# Altium footprint library PCB1.PcbLib: 58 footprints (part 4 of 4)
Each footprint in its own frame and in the unit in brackets; x right, y up, seen from the top. Pads: shape width x height; smd on the part's side, far side on the other; paste and mask are expansions set on the pad; w line width, h text height; cw(c..) or ccw(c..) is an arc to the next point about the centre after c.
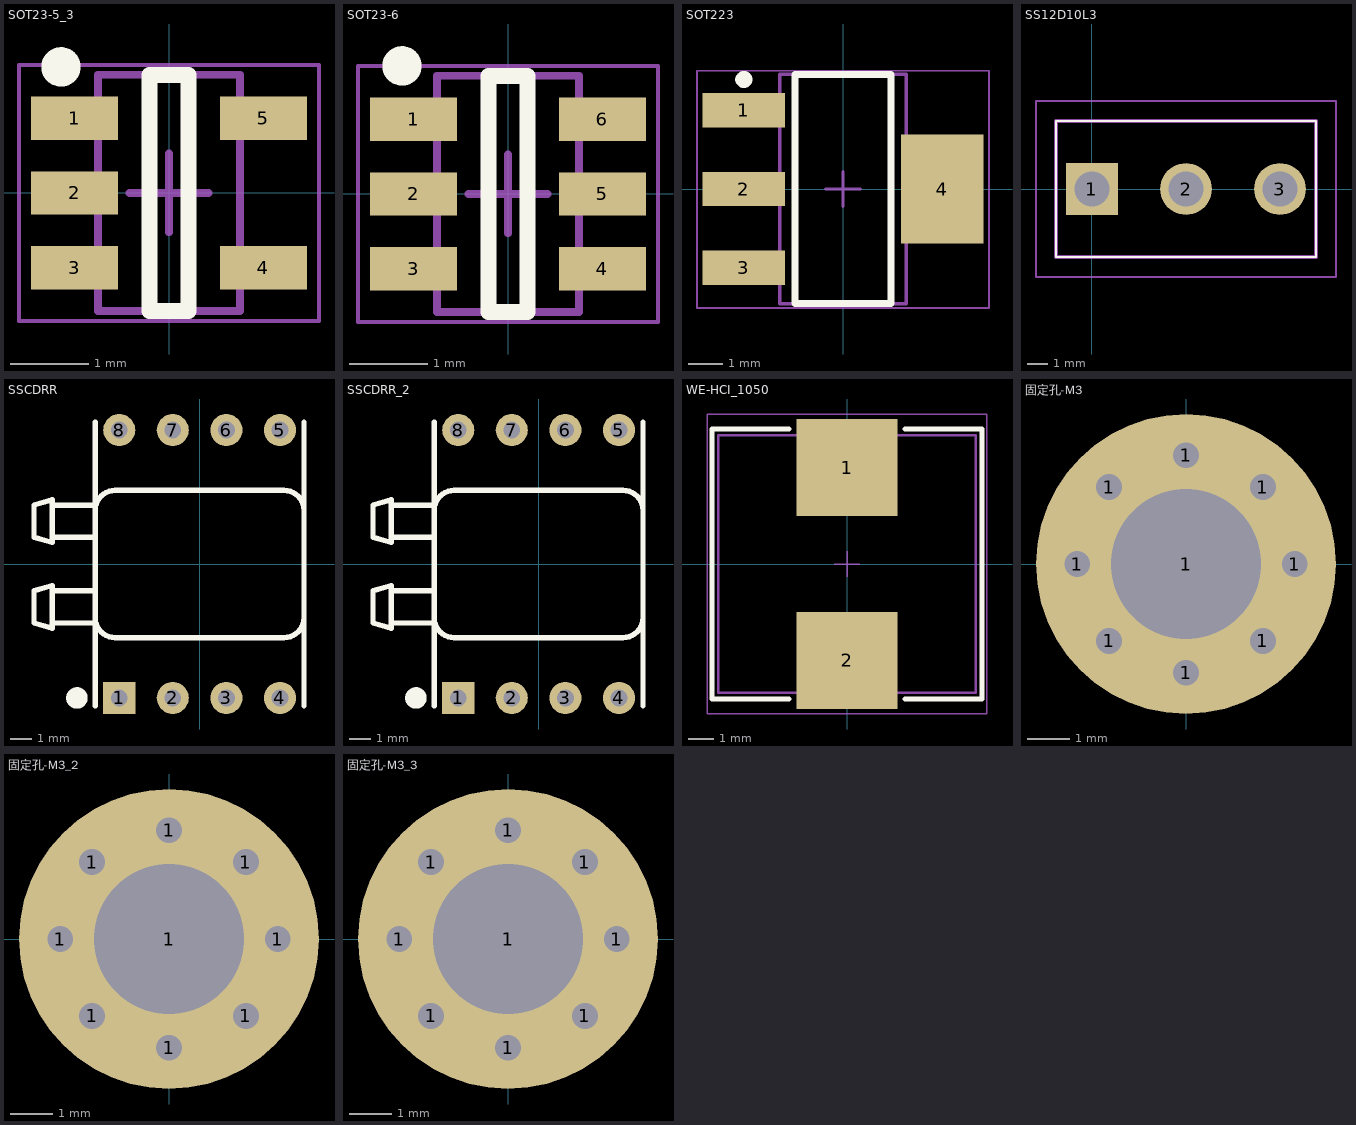
[diagram p3: the footprints below, top view; thin cyan lines are the x and y axes]

## SOT23-5_3 [mm]
pads (5):
  rect 1.1x0.55 smd: 1(-1.2,0.95) 2(-1.2,0) 3(-1.2,-0.95) 4(1.2,-0.95) 5(1.2,0.95)
Top Overlay:
  circle w0.25: c-1.372,1.6 r0.125
  lines w0.203: -0.25,-1.5 -0.25,1.5 0.25,1.5 0.25,-1.5 -0.25,-1.5
Mechanical 13:
  lines w0.1: -0.9,-1.5 0.9,-1.5 0.9,1.5 -0.9,1.5 -0.9,-1.5
Mechanical 15:
  lines w0.05: -1.905,-1.626 1.905,-1.626 1.905,1.626 -1.905,1.626 -1.905,-1.626
  lines w0.1: -0.5,0 0.5,0 ; 0,-0.5 0,0.5
3D body: height 1, standoff 0.12, extent -0.9,-1.5 0.9,1.5

## SOT23-6 [mm] "SOT23, 6-Leads, Body 2.90x2.80mm, Pitch 0.95mm, IPC Medium Density"
height 1
pads (6):
  rect 1.1x0.55 smd: 1(-1.2,0.95) 2(-1.2,0) 3(-1.2,-0.95) 4(1.2,-0.95) 5(1.2,0) 6(1.2,0.95)
Top Overlay:
  circle w0.25: c-1.346,1.626 r0.125
  lines w0.203: -0.25,-1.5 -0.25,1.5 0.25,1.5 0.25,-1.5 -0.25,-1.5
Mechanical 13:
  lines w0.1: -0.9,-1.5 0.9,-1.5 0.9,1.5 -0.9,1.5 -0.9,-1.5
Mechanical 15:
  lines w0.05: -1.905,-1.626 1.905,-1.626 1.905,1.626 -1.905,1.626 -1.905,-1.626
  lines w0.1: -0.5,0 0.5,0 ; 0,-0.5 0,0.5
3D body: height 1, standoff 0.12, extent -0.9,-1.5 0.9,1.5

## SOT223 [mm] "SOT223, 4-Leads, Body 6.50x7.00mm (avg), Pitch 2.30mm, IPC Medium Density"
height 1.8
pads (4):
  rect 2.4x1 smd: 1(-2.9,2.3) 2(-2.9,0) 3(-2.9,-2.3)
  rect 2.4x3.2 smd: 4(2.9,0)
Top Overlay:
  circle w0.25: c-2.9,3.2 r0.125
  lines w0.203: -1.4,-3.35 -1.4,3.35 1.4,3.35 1.4,-3.35 -1.4,-3.35
Mechanical 13:
  lines w0.1: -1.85,-3.35 -1.85,3.35 1.85,3.35 1.85,-3.35 -1.85,-3.35
Mechanical 15:
  lines w0.05: -4.267,-3.48 -4.267,3.454 4.267,3.454 4.267,-3.48 -4.267,-3.48
  lines w0.1: -0.5,0 0.5,0 ; 0,-0.5 0,0.5
3D body: height 1.8, standoff 0.02, extent -1.85,-3.35 1.85,3.35

## SS12D10L3 [mm]
height 2
pads (3):
  rect 2.595x2.595 hole 1.73: 1(0,0)
  round 2.595 hole 1.73: 2(4.7,0) 3(9.4,0)
Top Overlay:
  lines w0.1: -1.8,-3.4 -1.8,3.4 11.2,3.4 11.2,-3.4 -1.8,-3.4
Mechanical 13:
  lines w0.2: -1.8,-3.4 -1.8,3.4 11.2,3.4 11.2,-3.4 -1.8,-3.4
Mechanical 15:
  lines w0.1: -2.8,-4.4 -2.8,4.4 12.2,4.4 12.2,-4.4 -2.8,-4.4
3D body "SS-12D10L3.stp": height 9.4, standoff -6.9, extent -1.8,-3.4 11.2,3.4

## SSCDRR [mil]
height 78.74
pads (8):
  rect 60x60 hole 31.5: 1(-150,-250)
  round 60 hole 31.5: 2(-50,-250) 3(50,-250) 4(150,-250) 5(150,250) 6(50,250) 7(-50,250) 8(-150,250)
Top Overlay:
  circle w20: c-229,-250 r10
  lines w10: -275,-110 -195,-110 -195,-80 -195,-50 -275,-50 ; -275,110 -195,110 -195,80 -195,50 -275,50 ; -195,-265 -195,265 ; -195,-100 ccw(c-157.5,-100) -157.5,-137.5 157.5,-137.5 ccw(c157.5,-100) 195,-100 ; -195,100 cw(c-157.5,100) -157.5,137.5 157.5,137.5 cw(c157.5,100) 195,100 ; 195,-265 195,265 ; -275,50 -275,120 -309.17,110 -309.17,80 -309.17,50 -275,40 -275,50 ; -309.17,-110 -309.17,-80 -309.17,-50 -275,-40 -275,-120 -309.17,-110
3D body "sps-siot-trustability-dip-rr-cad-model-ciid-162276.stp": height 284.88, standoff -156.3, extent -310.23,-255 195,254.68

## SSCDRR_2 [mil]
pads (8):
  rect 60x60 hole 31.5: 1(-150,-250)
  round 60 hole 31.5: 2(-50,-250) 3(50,-250) 4(150,-250) 5(150,250) 6(50,250) 7(-50,250) 8(-150,250)
Top Overlay:
  circle w20: c-229,-250 r10
  lines w10: -275,-110 -195,-110 -195,-80 -195,-50 -275,-50 ; -275,110 -195,110 -195,80 -195,50 -275,50 ; -195,-265 -195,265 ; -195,-100 ccw(c-157.5,-100) -157.5,-137.5 157.5,-137.5 ccw(c157.5,-100) 195,-100 ; -195,100 cw(c-157.5,100) -157.5,137.5 157.5,137.5 cw(c157.5,100) 195,100 ; 195,-265 195,265 ; -275,50 -275,40 -309.17,50 -309.17,80 -309.17,110 -275,120 -275,50 ; -309.17,-110 -275,-120 -275,-40 -309.17,-50 -309.17,-80 -309.17,-110
3D body "sps-siot-trustability-dip-rr-cad-model-ciid-162276.stp": height 284.88, standoff -156.3, extent -310.22,-255 195,254.69

## WE-HCI_1050 [mm] "SMT Flat Wire High Current Inductor, body 10.2x10.2mm"
height 4.7
pads (2):
  rect 4x3.85 smd: 1(0,3.825) 2(0,-3.825)
Top Overlay:
  lines w0.2: -2.3,-5.35 -5.35,-5.35 -5.35,5.35 -2.3,5.35 ; 2.3,-5.35 5.35,-5.35 5.35,5.35 2.3,5.35
Top 3D Body:
  lines w0.1: -5.1,-5.1 5.1,-5.1 5.1,5.1 -5.1,5.1 -5.1,-5.1
Top Courtyard:
  lines w0.05: -0.5,0 0.5,0 ; 0,-0.5 0,0.5 ; -5.55,-5.95 -5.55,5.95 5.55,5.95 5.55,-5.95 -5.55,-5.95
Top Designator:
  text ".Designator" at -7.498,-0.5 h1.5
Top Component Outline:
  lines w0.1: -5.1,-5.1 5.1,-5.1 5.1,5.1 -5.1,5.1 -5.1,-5.1
3D body "WE-HCI-1050_rev1.stp": height 5, standoff 0, extent -5.1,-5.5 5.1,5.5

## 固定孔-M3 [mm]
height 2
pads (9):
  round 1 hole 0.6: 1(-2.54,0) 1(-1.796,-1.796) 1(-1.796,1.796) 1(0,-2.54) 1(0,2.54) 1(1.796,-1.796) 1(1.796,1.796) 1(2.54,0)
  round 7 hole 3.5: 1(0,0)

## 固定孔-M3_2 [mm]
pads (9):
  round 1 hole 0.6: 1(-2.54,0) 1(-1.796,-1.796) 1(-1.796,1.796) 1(0,-2.54) 1(0,2.54) 1(1.796,-1.796) 1(1.796,1.796) 1(2.54,0)
  round 7 hole 3.5: 1(0,0)

## 固定孔-M3_3 [mm]
pads (9):
  round 1 hole 0.6: 1(-2.54,0) 1(-1.796,-1.796) 1(-1.796,1.796) 1(0,-2.54) 1(0,2.54) 1(1.796,-1.796) 1(1.796,1.796) 1(2.54,0)
  round 7 hole 3.5: 1(0,0)